# Altium footprint library consubd.PcbLib: 91 footprints (part 4 of 6)
Each footprint in its own frame and in the unit in brackets; x right, y up, seen from the top. Pads: shape width x height; smd on the part's side, far side on the other; paste and mask are expansions set on the pad; w line width, h text height; cw(c..) or ccw(c..) is an arc to the next point about the centre after c.
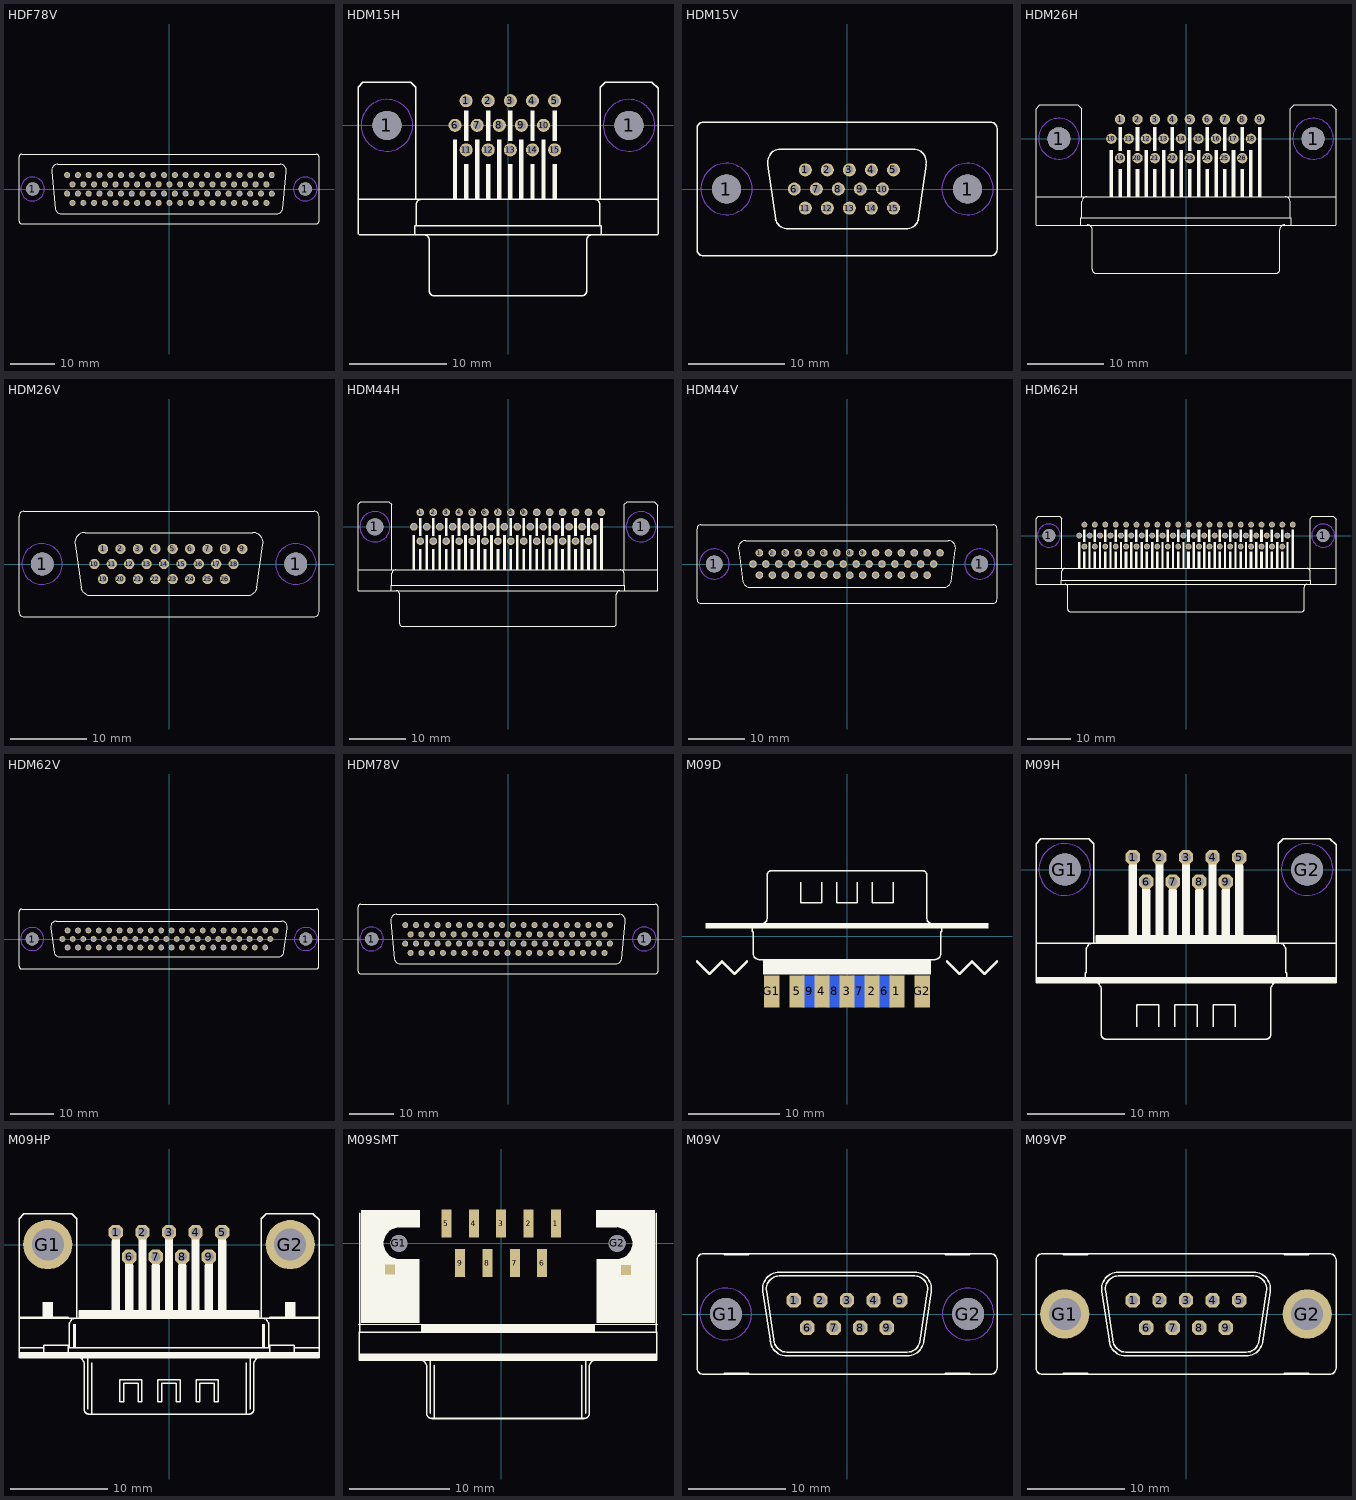
[diagram p3: the footprints below, top view; thin cyan lines are the x and y axes]

## HDF78V [mm]
pads (80):
  round 3 hole 3: 1(-30.55,0) 1(30.55,0)
  oct 1.307x1.307 hole 0.9: 1(23.024,3.12)
  round 1.35 hole 0.9: 2(20.611,3.12) 3(18.198,3.12) 4(15.785,3.12) 5(13.372,3.12) 6(10.959,3.12) 7(8.546,3.12) 8(6.133,3.12) 9(3.72,3.12) 10(1.307,3.12) 11(-1.106,3.12) 12(-3.519,3.12) 13(-5.932,3.12) 14(-8.345,3.12) 15(-10.758,3.12) 16(-13.171,3.12) 17(-15.584,3.12) 18(-17.997,3.12) 19(-20.41,3.12) 20(-22.823,3.12) 21(21.817,1.04) 22(19.404,1.04) 23(16.991,1.04) 24(14.578,1.04) 25(12.165,1.04) 26(9.752,1.04) 27(7.339,1.04) 28(4.926,1.04) 29(2.513,1.04) 30(0.1,1.04) 31(-2.313,1.04) 32(-4.726,1.04) 33(-7.139,1.04) 34(-9.552,1.04) 35(-11.965,1.04) 36(-14.378,1.04) 37(-16.791,1.04) 38(-19.204,1.04) 39(-21.617,1.04) 40(23.024,-1.04) 41(20.611,-1.04) 42(18.198,-1.04) 43(15.785,-1.04) 44(13.372,-1.04) 45(10.959,-1.04) 46(8.546,-1.04) 47(6.133,-1.04) 48(3.72,-1.04) 49(1.307,-1.04) 50(-1.106,-1.04) 51(-3.519,-1.04) 52(-5.932,-1.04) 53(-8.345,-1.04) 54(-10.758,-1.04) 55(-13.171,-1.04) 56(-15.584,-1.04) 57(-17.997,-1.04) 58(-20.41,-1.04) 59(-22.823,-1.04) 60(21.817,-3.12) 61(19.404,-3.12) 62(16.991,-3.12) 63(14.578,-3.12) 64(12.165,-3.12) 65(9.752,-3.12) 66(7.339,-3.12) 67(4.926,-3.12) 68(2.513,-3.12) 69(0.1,-3.12) 70(-2.313,-3.12) 71(-4.726,-3.12) 72(-7.139,-3.12) 73(-9.552,-3.12) 74(-11.965,-3.12) 75(-14.378,-3.12) 76(-16.791,-3.12) 77(-19.204,-3.12) 78(-21.617,-3.12)
Top Layer keep-out:
  circle w0: c30.55,0 r2.667
  circle w0: c-30.55,0 r2.667
Bottom Layer keep-out:
  circle w0: c30.55,0 r2.667
  circle w0: c-30.55,0 r2.667
Top Overlay:
  lines w0.152: -32.971,-7.823 cw(c-32.971,-7.188) -33.606,-7.188 -33.606,7.188 cw(c-32.971,7.188) -32.971,7.823 32.963,7.823 ; -32.963,-7.823 32.971,-7.823 ccw(c32.971,-7.188) 33.606,-7.188 33.606,7.188 ccw(c32.971,7.188) 32.971,7.823 ; -26.247,3.937 -25.459,-4.546 ; -26.246,3.927 cw(c-24.926,4.191) -24.926,5.537 24.926,5.537 cw(c24.926,4.191) 26.242,3.904 ; -25.467,-4.53 ccw(c-24.164,-4.191) -24.164,-5.537 24.164,-5.537 ccw(c24.164,-4.191) 25.467,-4.53 ; 25.459,-4.521 26.247,3.911

## HDM15H [mm]
pads (17):
  round 3 hole 3: 1(-12.5,0) 1(12.5,0)
  round 1.35 hole 0.9: 1(-4.329,2.54) 2(-2.043,2.54) 3(0.243,2.54) 4(2.529,2.54) 5(4.815,2.54) 6(-5.472,0) 7(-3.186,0) 8(-0.9,0) 9(1.386,0) 10(3.672,0) 11(-4.329,-2.54) 12(-2.043,-2.54) 13(0.243,-2.54) 14(2.529,-2.54) 15(4.815,-2.54)
Top Layer keep-out:
  circle w0: c-12.5,0 r2.667
  circle w0: c12.5,0 r2.667
Bottom Layer keep-out:
  circle w0: c-12.5,0 r2.667
  circle w0: c12.5,0 r2.667
Top Overlay:
  region: -4.529,-1.6 -4.529,1.5 -4.129,1.5 -4.129,-1.6
  region: -2.243,-1.6 -2.243,1.5 -1.843,1.5 -1.843,-1.6
  region: 0.043,-1.6 0.043,1.5 0.443,1.5 0.443,-1.6
  region: 2.329,-1.6 2.329,1.5 2.729,1.5 2.729,-1.6
  region: 4.615,-1.6 4.615,1.5 5.015,1.5 5.015,-1.6
  region: -4.529,-7.6 -4.529,-4 -4.129,-4 -4.129,-7.6
  region: -2.243,-7.6 -2.243,-4 -1.843,-4 -1.843,-7.6
  region: 4.615,-7.6 4.615,-4 5.015,-4 5.015,-7.6
  region: 2.329,-7.6 2.329,-4 2.729,-4 2.729,-7.6
  region: 0.043,-7.6 0.043,-4 0.443,-4 0.443,-7.6
  region: -5.672,-7.6 -5.672,-1.5 -5.272,-1.5 -5.272,-7.6
  region: -3.386,-7.6 -3.386,-1.5 -2.986,-1.5 -2.986,-7.6
  region: 3.472,-7.6 3.472,-1.5 3.872,-1.5 3.872,-7.6
  region: 1.186,-7.6 1.186,-1.5 1.586,-1.5 1.586,-7.6
  region: -1.1,-7.6 -1.1,-1.5 -0.7,-1.5 -0.7,-7.6
  lines w0.152: -15.494,-11.276 -15.494,-7.62 ; -15.38,-11.294 15.476,-11.294 ; -9.614,-11.276 -9.614,-10.368 -9.487,-10.368 ; -9.525,-7.62 -9.525,3.937 -10.033,4.445 -14.986,4.445 -15.494,3.937 -15.494,-7.62 ; -8.852,-7.62 ccw(c-8.852,-8.255) -9.487,-8.255 -9.487,-10.368 ; -8.763,-11.284 cw(c-8.763,-11.919) -8.128,-11.919 -8.128,-17.099 ccw(c-7.62,-17.099) -7.62,-17.607 7.62,-17.607 ccw(c7.62,-17.099) 8.128,-17.099 8.128,-11.919 cw(c8.763,-11.919) 8.763,-11.284 ; 8.852,-7.62 cw(c8.852,-8.255) 9.487,-8.255 9.487,-10.368 ; 9.525,-7.62 9.525,3.937 10.033,4.445 14.859,4.445 15.494,3.81 15.494,-11.276 ; 9.614,-11.276 9.614,-10.368 9.487,-10.368 ; 15.475,-7.62 -15.494,-7.62 ; -9.487,-10.368 9.487,-10.368

## HDM15V [mm]
pads (17):
  round 3 hole 3: 1(-12.5,0) 1(12.5,0)
  round 1.35 hole 0.9: 1(-4.324,1.98) 2(-2.038,1.98) 3(0.248,1.98) 4(2.534,1.98) 5(4.82,1.98) 6(-5.467,0) 7(-3.181,0) 8(-0.895,0) 9(1.391,0) 10(3.677,0) 11(-4.324,-1.98) 12(-2.038,-1.98) 13(0.248,-1.98) 14(2.534,-1.98) 15(4.82,-1.98)
Top Layer keep-out:
  circle w0: c12.5,0 r2.667
  circle w0: c-12.5,0 r2.667
Bottom Layer keep-out:
  circle w0: c12.5,0 r2.667
  circle w0: c-12.5,0 r2.667
Top Overlay:
  lines w0.152: -14.921,-6.923 cw(c-14.921,-6.288) -15.556,-6.288 -15.556,6.288 cw(c-14.921,6.288) -14.921,6.923 14.913,6.923 ; -14.913,-6.923 14.921,-6.923 ccw(c14.921,-6.288) 15.556,-6.288 15.556,6.288 ccw(c14.921,6.288) 14.921,6.923 ; -8.196,2.527 cw(c-6.876,2.791) -6.876,4.137 6.876,4.137 cw(c6.876,2.791) 8.191,2.504 ; -8.197,2.537 -7.409,-3.146 ; -7.417,-3.13 ccw(c-6.114,-2.791) -6.114,-4.137 6.114,-4.137 ccw(c6.114,-2.791) 7.417,-3.13 ; 7.409,-3.121 8.197,2.511

## HDM26H [mm]
pads (28):
  round 3 hole 3: 1(-16.65,0) 1(16.65,0)
  round 1.35 hole 0.9: 1(-8.639,2.54) 2(-6.353,2.54) 3(-4.067,2.54) 4(-1.781,2.54) 5(0.505,2.54) 6(2.791,2.54) 7(5.077,2.54) 8(7.363,2.54) 9(9.649,2.54) 10(-9.782,0) 11(-7.496,0) 12(-5.21,0) 13(-2.924,0) 14(-0.638,0) 15(1.648,0) 16(3.934,0) 17(6.22,0) 18(8.506,0) 19(-8.639,-2.54) 20(-6.353,-2.54) 21(-4.067,-2.54) 22(-1.781,-2.54) 23(0.505,-2.54) 24(2.791,-2.54) 25(5.077,-2.54) 26(7.363,-2.54)
Top Layer keep-out:
  circle w0: c16.65,0 r2.667
  circle w0: c-16.65,0 r2.667
Bottom Layer keep-out:
  circle w0: c16.65,0 r2.667
  circle w0: c-16.65,0 r2.667
Top Overlay:
  region: -5.41,-7.6 -5.41,-1.5 -5.01,-1.5 -5.01,-7.6
  region: -3.124,-7.6 -3.124,-1.5 -2.724,-1.5 -2.724,-7.6
  region: -0.838,-7.6 -0.838,-1.5 -0.438,-1.5 -0.438,-7.6
  region: -7.696,-7.6 -7.696,-1.5 -7.296,-1.5 -7.296,-7.6
  region: -9.982,-7.6 -9.982,-1.5 -9.582,-1.5 -9.582,-7.6
  region: -4.267,-7.6 -4.267,-4 -3.867,-4 -3.867,-7.6
  region: -1.981,-7.6 -1.981,-4 -1.581,-4 -1.581,-7.6
  region: 0.305,-7.6 0.305,-4 0.705,-4 0.705,-7.6
  region: -6.553,-7.6 -6.553,-4 -6.153,-4 -6.153,-7.6
  region: -8.839,-7.6 -8.839,-4 -8.439,-4 -8.439,-7.6
  region: 0.305,-1.6 0.305,1.5 0.705,1.5 0.705,-1.6
  region: -1.981,-1.6 -1.981,1.5 -1.581,1.5 -1.581,-1.6
  region: -4.267,-1.6 -4.267,1.5 -3.867,1.5 -3.867,-1.6
  region: -6.553,-1.6 -6.553,1.5 -6.153,1.5 -6.153,-1.6
  region: -8.839,-1.6 -8.839,1.5 -8.439,1.5 -8.439,-1.6
  region: 6.02,-7.6 6.02,-1.5 6.42,-1.5 6.42,-7.6
  region: 8.306,-7.6 8.306,-1.5 8.706,-1.5 8.706,-7.6
  region: 3.734,-7.6 3.734,-1.5 4.134,-1.5 4.134,-7.6
  region: 7.163,-7.6 7.163,-4 7.563,-4 7.563,-7.6
  region: 4.877,-7.6 4.877,-4 5.277,-4 5.277,-7.6
  region: 2.591,-7.6 2.591,-4 2.991,-4 2.991,-7.6
  region: 1.448,-7.6 1.448,-1.5 1.848,-1.5 1.848,-7.6
  region: 2.591,-1.6 2.591,1.5 2.991,1.5 2.991,-1.6
  region: 4.877,-1.6 4.877,1.5 5.277,1.5 5.277,-1.6
  region: 7.163,-1.6 7.163,1.5 7.563,1.5 7.563,-1.6
  region: 9.449,-1.6 9.449,1.5 9.849,1.5 9.849,-1.6
  region: 9.449,-7.6 9.449,-1.5 9.849,-1.5 9.849,-7.6
  lines w0.152: -19.644,-11.276 -19.644,-7.62 ; -19.6,-11.3 19.6,-11.3 ; -13.764,-11.276 -13.764,-10.368 -13.637,-10.368 ; -13.675,-7.62 -13.675,3.937 -14.183,4.445 -19.136,4.445 -19.644,3.937 -19.644,-7.62 ; -13.002,-7.62 ccw(c-13.002,-8.255) -13.637,-8.255 -13.637,-10.368 ; -12.913,-11.284 cw(c-12.913,-11.919) -12.278,-11.919 -12.278,-17.099 ccw(c-11.77,-17.099) -11.77,-17.607 11.77,-17.607 ccw(c11.77,-17.099) 12.278,-17.099 12.278,-11.919 cw(c12.913,-11.919) 12.913,-11.284 ; 13.002,-7.62 cw(c13.002,-8.255) 13.637,-8.255 13.637,-10.368 ; 13.675,-7.62 13.675,3.937 14.183,4.445 19.009,4.445 19.644,3.81 19.644,-11.276 ; 13.764,-11.276 13.764,-10.368 13.637,-10.368 ; 19.556,-7.62 -19.644,-7.62 ; -13.637,-10.368 13.637,-10.368

## HDM26V [mm]
pads (28):
  round 3 hole 3: 1(-16.65,0) 1(16.65,0)
  round 1.35 hole 0.9: 1(-8.658,1.98) 2(-6.372,1.98) 3(-4.086,1.98) 4(-1.8,1.98) 5(0.486,1.98) 6(2.772,1.98) 7(5.058,1.98) 8(7.344,1.98) 9(9.63,1.98) 10(-9.801,0) 11(-7.515,0) 12(-5.229,0) 13(-2.943,0) 14(-0.657,0) 15(1.629,0) 16(3.915,0) 17(6.201,0) 18(8.487,0) 19(-8.658,-1.98) 20(-6.372,-1.98) 21(-4.086,-1.98) 22(-1.8,-1.98) 23(0.486,-1.98) 24(2.772,-1.98) 25(5.058,-1.98) 26(7.344,-1.98)
Top Layer keep-out:
  circle w0: c16.672,0 r2.667
  circle w0: c-16.672,0 r2.667
Bottom Layer keep-out:
  circle w0: c16.672,0 r2.667
  circle w0: c-16.672,0 r2.667
Top Overlay:
  lines w0.152: -19.071,-6.923 cw(c-19.071,-6.288) -19.706,-6.288 -19.706,6.288 cw(c-19.071,6.288) -19.071,6.923 19.063,6.923 ; -19.063,-6.923 19.071,-6.923 ccw(c19.071,-6.288) 19.706,-6.288 19.706,6.288 ccw(c19.071,6.288) 19.071,6.923 ; -12.347,2.537 -11.559,-3.146 ; -12.346,2.527 cw(c-11.026,2.791) -11.026,4.137 11.026,4.137 cw(c11.026,2.79) 12.342,2.504 ; -11.567,-3.13 ccw(c-10.264,-2.791) -10.264,-4.137 10.264,-4.137 ccw(c10.264,-2.791) 11.567,-3.13 ; 11.559,-3.121 12.347,2.511

## HDM44H [mm]
pads (46):
  round 3 hole 3: 1(-23.52,0) 1(23.52,0)
  round 1.35 hole 0.9: 1(-15.497,2.54) 2(-13.211,2.54) 3(-10.925,2.54) 4(-8.639,2.54) 5(-6.353,2.54) 6(-4.067,2.54) 7(-1.781,2.54) 8(0.505,2.54) 9(2.791,2.54) 10(5.077,2.54) 11(7.363,2.54) 12(9.649,2.54) 13(11.935,2.54) 14(14.221,2.54) 15(16.507,2.54) 16(-16.64,0) 17(-14.354,0) 18(-12.068,0) 19(-9.782,0) 20(-7.496,0) 21(-5.21,0) 22(-2.924,0) 23(-0.638,0) 24(1.648,0) 25(3.934,0) 26(6.22,0) 27(8.506,0) 28(10.792,0) 29(13.078,0) 30(15.364,0) 31(-15.497,-2.54) 32(-13.211,-2.54) 33(-10.925,-2.54) 34(-8.639,-2.54) 35(-6.353,-2.54) 36(-4.067,-2.54) 37(-1.781,-2.54) 38(0.505,-2.54) 39(2.791,-2.54) 40(5.077,-2.54) 41(7.363,-2.54) 42(9.649,-2.54) 43(11.935,-2.54) 44(14.221,-2.54)
Top Layer keep-out:
  circle w0: c-23.52,0 r2.667
  circle w0: c23.52,0 r2.667
Bottom Layer keep-out:
  circle w0: c-23.52,0 r2.667
  circle w0: c23.52,0 r2.667
Top Overlay:
  drawing of 74 lines, arcs and shapes, not listed

## HDM44V [mm]
pads (46):
  round 3 hole 3: 1(-23.52,0) 1(23.52,0)
  round 1.35 hole 0.9: 1(-15.516,1.98) 2(-13.23,1.98) 3(-10.944,1.98) 4(-8.658,1.98) 5(-6.372,1.98) 6(-4.086,1.98) 7(-1.8,1.98) 8(0.486,1.98) 9(2.772,1.98) 10(5.058,1.98) 11(7.344,1.98) 12(9.63,1.98) 13(11.916,1.98) 14(14.202,1.98) 15(16.488,1.98) 16(-16.659,0) 17(-14.373,0) 18(-12.087,0) 19(-9.801,0) 20(-7.515,0) 21(-5.229,0) 22(-2.943,0) 23(-0.657,0) 24(1.629,0) 25(3.915,0) 26(6.201,0) 27(8.487,0) 28(10.773,0) 29(13.059,0) 30(15.345,0) 31(-15.516,-1.98) 32(-13.23,-1.98) 33(-10.944,-1.98) 34(-8.658,-1.98) 35(-6.372,-1.98) 36(-4.086,-1.98) 37(-1.8,-1.98) 38(0.486,-1.98) 39(2.772,-1.98) 40(5.058,-1.98) 41(7.344,-1.98) 42(9.63,-1.98) 43(11.916,-1.98) 44(14.202,-1.98)
Top Layer keep-out:
  circle w0: c23.52,0 r2.667
  circle w0: c-23.52,0 r2.667
Bottom Layer keep-out:
  circle w0: c23.52,0 r2.667
  circle w0: c-23.52,0 r2.667
Top Overlay:
  lines w0.152: -25.941,-6.923 cw(c-25.941,-6.288) -26.576,-6.288 -26.576,6.288 cw(c-25.941,6.288) -25.941,6.923 25.933,6.923 ; -25.933,-6.923 25.941,-6.923 ccw(c25.941,-6.288) 26.576,-6.288 26.576,6.288 ccw(c25.941,6.288) 25.941,6.923 ; -19.216,2.527 cw(c-17.896,2.791) -17.896,4.137 17.896,4.137 cw(c17.896,2.791) 19.212,2.504 ; -19.217,2.537 -18.429,-3.146 ; -18.437,-3.13 ccw(c-17.134,-2.791) -17.134,-4.137 17.134,-4.137 ccw(c17.134,-2.791) 18.437,-3.13 ; 18.429,-3.121 19.217,2.511

## HDM62H [mm]
pads (64):
  round 3 hole 3: 1(-31.75,0) 1(31.75,0)
  round 1.35 hole 0.9: 1(-23.527,2.54) 2(-21.114,2.54) 3(-18.701,2.54) 4(-16.288,2.54) 5(-13.875,2.54) 6(-11.462,2.54) 7(-9.049,2.54) 8(-6.636,2.54) 9(-4.223,2.54) 10(-1.81,2.54) 11(0.603,2.54) 12(3.016,2.54) 13(5.429,2.54) 14(7.842,2.54) 15(10.255,2.54) 16(12.668,2.54) 17(15.081,2.54) 18(17.494,2.54) 19(19.907,2.54) 20(22.32,2.54) 21(24.733,2.54) 22(-24.734,0) 23(-22.321,0) 24(-19.908,0) 25(-17.495,0) 26(-15.082,0) 27(-12.669,0) 28(-10.256,0) 29(-7.843,0) 30(-5.43,0) 31(-3.017,0) 32(-0.604,0) 33(1.809,0) 34(4.222,0) 35(6.635,0) 36(9.048,0) 37(11.461,0) 38(13.874,0) 39(16.287,0) 40(18.7,0) 41(21.113,0) 42(23.526,0) 43(-23.527,-2.54) 44(-21.114,-2.54) 45(-18.701,-2.54) 46(-16.288,-2.54) 47(-13.875,-2.54) 48(-11.462,-2.54) 49(-9.049,-2.54) 50(-6.636,-2.54) 51(-4.223,-2.54) 52(-1.81,-2.54) 53(0.603,-2.54) 54(3.016,-2.54) 55(5.429,-2.54) 56(7.842,-2.54) 57(10.255,-2.54) 58(12.668,-2.54) 59(15.081,-2.54) 60(17.494,-2.54) 61(19.907,-2.54) 62(22.32,-2.54)
Top Layer keep-out:
  circle w0: c31.75,0 r2.667
  circle w0: c-31.75,0 r2.667
Bottom Layer keep-out:
  circle w0: c31.75,0 r2.667
  circle w0: c-31.75,0 r2.667
Top Overlay:
  drawing of 91 lines, arcs and shapes, not listed

## HDM62V [mm]
pads (64):
  round 3 hole 3: 1(-31.75,0) 1(31.75,0)
  round 1.35 hole 0.9: 1(-23.532,1.98) 2(-21.119,1.98) 3(-18.706,1.98) 4(-16.293,1.98) 5(-13.88,1.98) 6(-11.467,1.98) 7(-9.054,1.98) 8(-6.641,1.98) 9(-4.228,1.98) 10(-1.815,1.98) 11(0.598,1.98) 12(3.011,1.98) 13(5.424,1.98) 14(7.837,1.98) 15(10.25,1.98) 16(12.663,1.98) 17(15.076,1.98) 18(17.489,1.98) 19(19.902,1.98) 20(22.315,1.98) 21(24.728,1.98) 22(-24.739,0) 23(-22.325,0) 24(-19.912,0) 25(-17.499,0) 26(-15.086,0) 27(-12.673,0) 28(-10.26,0) 29(-7.847,0) 30(-5.434,0) 31(-3.021,0) 32(-0.608,0) 33(1.805,0) 34(4.218,0) 35(6.631,0) 36(9.044,0) 37(11.457,0) 38(13.87,0) 39(16.283,0) 40(18.696,0) 41(21.109,0) 42(23.522,0) 43(-23.532,-1.98) 44(-21.119,-1.98) 45(-18.706,-1.98) 46(-16.293,-1.98) 47(-13.88,-1.98) 48(-11.467,-1.98) 49(-9.054,-1.98) 50(-6.641,-1.98) 51(-4.228,-1.98) 52(-1.815,-1.98) 53(0.598,-1.98) 54(3.011,-1.98) 55(5.424,-1.98) 56(7.837,-1.98) 57(10.25,-1.98) 58(12.663,-1.98) 59(15.076,-1.98) 60(17.489,-1.98) 61(19.902,-1.98) 62(22.315,-1.98)
Top Layer keep-out:
  circle w0: c31.75,0 r2.667
  circle w0: c-31.75,0 r2.667
Bottom Layer keep-out:
  circle w0: c31.75,0 r2.667
  circle w0: c-31.75,0 r2.667
Top Overlay:
  lines w0.152: -34.171,-6.923 cw(c-34.171,-6.288) -34.806,-6.288 -34.806,6.288 cw(c-34.171,6.288) -34.171,6.923 34.163,6.923 ; -34.163,-6.923 34.171,-6.923 ccw(c34.171,-6.288) 34.806,-6.288 34.806,6.288 ccw(c34.171,6.288) 34.171,6.923 ; -27.447,2.537 -26.659,-3.146 ; -27.446,2.527 cw(c-26.126,2.791) -26.126,4.137 26.126,4.137 cw(c26.126,2.791) 27.441,2.504 ; -26.667,-3.13 ccw(c-25.364,-2.791) -25.364,-4.137 25.364,-4.137 ccw(c25.364,-2.791) 26.667,-3.13 ; 26.659,-3.121 27.447,2.511

## HDM78V [mm]
pads (80):
  round 3 hole 3: 1(-30.55,0) 1(30.55,0)
  round 1.35 hole 0.9: 1(-23.024,3.12) 2(-20.611,3.12) 3(-18.198,3.12) 4(-15.785,3.12) 5(-13.372,3.12) 6(-10.959,3.12) 7(-8.546,3.12) 8(-6.133,3.12) 9(-3.72,3.12) 10(-1.307,3.12) 11(1.106,3.12) 12(3.519,3.12) 13(5.932,3.12) 14(8.345,3.12) 15(10.758,3.12) 16(13.171,3.12) 17(15.584,3.12) 18(17.997,3.12) 19(20.41,3.12) 20(22.823,3.12) 21(-21.817,1.04) 22(-19.404,1.04) 23(-16.991,1.04) 24(-14.578,1.04) 25(-12.165,1.04) 26(-9.752,1.04) 27(-7.339,1.04) 28(-4.926,1.04) 29(-2.513,1.04) 30(-0.1,1.04) 31(2.313,1.04) 32(4.726,1.04) 33(7.139,1.04) 34(9.552,1.04) 35(11.965,1.04) 36(14.378,1.04) 37(16.791,1.04) 38(19.204,1.04) 39(21.617,1.04) 40(-23.024,-1.04) 41(-20.611,-1.04) 42(-18.198,-1.04) 43(-15.785,-1.04) 44(-13.372,-1.04) 45(-10.959,-1.04) 46(-8.546,-1.04) 47(-6.133,-1.04) 48(-3.72,-1.04) 49(-1.307,-1.04) 50(1.106,-1.04) 51(3.519,-1.04) 52(5.932,-1.04) 53(8.345,-1.04) 54(10.758,-1.04) 55(13.171,-1.04) 56(15.584,-1.04) 57(17.997,-1.04) 58(20.41,-1.04) 59(22.823,-1.04) 60(-21.817,-3.12) 61(-19.404,-3.12) 62(-16.991,-3.12) 63(-14.578,-3.12) 64(-12.165,-3.12) 65(-9.752,-3.12) 66(-7.339,-3.12) 67(-4.926,-3.12) 68(-2.513,-3.12) 69(-0.1,-3.12) 70(2.313,-3.12) 71(4.726,-3.12) 72(7.139,-3.12) 73(9.552,-3.12) 74(11.965,-3.12) 75(14.378,-3.12) 76(16.791,-3.12) 77(19.204,-3.12) 78(21.617,-3.12)
Top Layer keep-out:
  circle w0: c-30.55,0 r2.667
  circle w0: c30.55,0 r2.667
Bottom Layer keep-out:
  circle w0: c-30.55,0 r2.667
  circle w0: c30.55,0 r2.667
Top Overlay:
  lines w0.152: -32.971,-7.823 cw(c-32.971,-7.188) -33.606,-7.188 -33.606,7.188 cw(c-32.971,7.188) -32.971,7.823 32.963,7.823 ; -32.963,-7.823 32.971,-7.823 ccw(c32.971,-7.188) 33.606,-7.188 33.606,7.188 ccw(c32.971,7.188) 32.971,7.823 ; -26.247,3.937 -25.459,-4.546 ; -26.246,3.927 cw(c-24.926,4.191) -24.926,5.537 24.926,5.537 cw(c24.926,4.191) 26.242,3.904 ; -25.467,-4.53 ccw(c-24.164,-4.191) -24.164,-5.537 24.164,-5.537 ccw(c24.164,-4.191) 25.467,-4.53 ; 25.459,-4.521 26.247,3.911

## M09D [mil]
pads (11):
  rect 66.93x137.8 smd: 1(215.99,-237.98) 2(108.01,-237.98) 3(0,-237.99) 4(-108.01,-237.98) 5(-215.99,-237.98) G1(-325.99,-237.98) G2(325.99,-237.98)
  rect 66.93x137.8 smd far side: 6(162,-238) 7(54,-238) 8(-54,-238) 9(-162,-238)
Top Overlay:
  region: -610,36.06 -610,56.06 610,56.06 610,36.06
  region: -362.2,-163.78 -362.2,-100.79 362.2,-100.79 362.2,-163.78
  lines w6: -410,40 -410,20 -405,20 -405,-75 ccw(c-380,-75) -380,-100 ; -380.75,-100 380.75,-100 ; -370,54.45 ccw(c-370,79.45) -345,79.45 -345,264.45 cw(c-325,264.45) -325,284.45 325,284.45 cw(c325,264.45) 345,264.45 345,79.45 ccw(c370,79.45) 370,54.45 ; -200,234.45 -200,144.45 -110,144.45 -110,234.45 ; -45,234.45 -45,144.45 45,144.45 45,234.45 ; 110,234.45 110,144.45 200,144.45 200,234.45 ; 380,-100 ccw(c380,-75) 405,-75 405,20 410,20 410,40
  lines w10: -648,-108 -594,-162 -540,-108 -486,-162 -432,-108 ; 432,-108 486,-162 540,-108 594,-162 648,-108

## M09H [mil]
pads (11):
  oct 58.09x58.09 hole 40: 1(-216,50) 2(-108,50) 3(0,50) 4(108,50) 5(216,50) 6(-162,-50) 7(-54,-50) 8(54,-50) 9(162,-50)
  round 130 hole 130: G1(-493,0) G2(493,0)
Top Layer keep-out:
  circle w0: c-493,0 r105
  circle w0: c493,0 r105
Bottom Layer keep-out:
  circle w0: c-493,0 r105
  circle w0: c493,0 r105
Top Overlay:
  region: 200,-270 200,15 232,15 232,-270
  region: 146,-270 146,-85 178,-85 178,-270
  region: 92,-270 92,15 124,15 124,-270
  region: 38,-270 38,-85 70,-85 70,-270
  region: -16,-270 -16,15 16,15 16,-270
  region: -70,-270 -70,-85 -38,-85 -38,-270
  region: -124,-270 -124,15 -92,15 -92,-270
  region: -178,-270 -178,-85 -146,-85 -146,-270
  region: -232,-270 -232,15 -200,15 -200,-270
  region: -610,-460 -610,-440 610,-440 610,-460
  region: -365,-300 -365,-270 365,-270 365,-300
  lines w6: -380,-300 ccw(c-380,-325) -405,-325 -405,-420 -410,-420 -410,-440 ; -370,-460 cw(c-370,-485) -345,-485 -345,-670 ccw(c-325,-670) -325,-690 -315,-690 315,-690 325,-690 ccw(c325,-670) 345,-670 345,-485 cw(c370,-485) 370,-460 ; -200,-640 -200,-550 -110,-550 -110,-640 ; -45,-640 -45,-550 45,-550 45,-640 ; 110,-640 110,-550 200,-550 200,-640 ; 380,-300 cw(c380,-325) 405,-325 405,-420 410,-420 410,-440 ; -610,-440 -510,-440 -410,-440 ; -610,-440 -610,-420 -610,-300 ; -610,-440 -610,-460 -330,-460 330,-460 610,-460 610,-440 ; -610,-300 -410,-300 -375,-300 ; -610,-300 -610,-295 -610,105 -590,125 -395,125 -375,105 -375,-300 ; -410,-440 410,-440 ; -375,-300 -365,-300 ; -365,-300 -365,-270 365,-270 365,-300 ; -365,-300 365,-300 ; 365,-300 375,-300 ; 375,-300 375,105 395,125 585,125 610,100 610,-295 610,-300 ; 375,-300 410,-300 610,-300 ; 410,-440 510,-440 610,-440 ; 610,-440 610,-420 610,-300
  lines w32: -216,5 -216,45 ; -162,-95 -162,-55 ; -108,5 -108,45 ; -54,-95 -54,-55 ; 0,5 0,45 ; 54,-95 54,-55 ; 108,5 108,45 ; 162,-95 162,-55 ; 216,5 216,45

## M09HP [mil]
pads (11):
  oct 58.09x58.09 hole 40: 1(-216,50) 2(-108,50) 3(0,50) 4(108,50) 5(216,50) 6(-162,-50) 7(-54,-50) 8(54,-50) 9(162,-50)
  round 200 hole 130: G1(-493,0) G2(493,0)
Top Overlay:
  drawing of 120 lines, arcs and shapes, not listed
3D body "sld09p13a4gx00lf.stp": height 530.03, standoff -125.48, extent -608.07,-691.97 608.46,121.02

## M09SMT [mm]
pads (13):
  rect 1x2.8 smd: 1(5.48,1.975) 2(2.74,1.975) 3(0,1.975) 4(-2.74,1.975) 5(-5.48,1.975) 6(4.11,-1.975) 7(1.37,-1.975) 8(-1.37,-1.975) 9(-4.11,-1.975)
  round 1.7 hole 1.7: G1(-10.24,0) G2(11.61,0)
  rect 1x1 smd: S@1(12.485,-2.65) S@2(-11.115,-2.625)
Top Overlay:
  region: 15.368,-7.938 9.56,-7.938 9.56,-1.587 11.558,-1.587 11.713,-1.58 12.018,-1.519 12.306,-1.4 12.565,-1.227 12.785,-1.007 12.958,-0.748 13.077,-0.461 13.137,-0.156 13.137,0.156 13.077,0.461 12.958,0.748 12.785,1.007 12.565,1.227 12.306,1.4 12.018,1.519 11.713,1.58 11.558,1.587 9.535,1.587 9.535,3.325 15.368,3.325
  region: -13.997,-7.938 -8.19,-7.938 -8.19,-1.587 -10.187,-1.587 -10.343,-1.58 -10.648,-1.519 -10.936,-1.4 -11.195,-1.227 -11.415,-1.007 -11.587,-0.748 -11.707,-0.461 -11.767,-0.156 -11.767,0.156 -11.707,0.461 -11.587,0.748 -11.415,1.007 -11.195,1.227 -10.936,1.4 -10.648,1.519 -10.343,1.58 -10.187,1.587 -8.165,1.587 -8.165,3.325 -13.997,3.325
  region: -14.175,-11.684 -14.175,-11.04 15.575,-11.04 15.575,-11.684
  region: -7.938,-8.92 -7.938,-8.158 9.325,-8.158 9.325,-8.92
  lines w0: -14.317,-8.1 15.688,-8.1
  lines w0.152: -14.14,3.016 -14.14,-8.793 -14.188,-8.92 ; -8.092,-11.684 cw(c-8.092,-12.319) -7.457,-12.319 -7.457,-17.018 ccw(c-6.949,-17.018) -6.949,-17.526 -6.695,-17.526 ; -7.076,-17.018 -7.076,-11.684 ; -6.695,-12.192 -6.695,-17.526 ; 8.065,-12.192 8.065,-17.526 ; 8.446,-17.018 8.446,-11.684 ; 9.462,-11.684 ccw(c9.462,-12.319) 8.827,-12.319 8.827,-17.018 cw(c8.319,-17.018) 8.319,-17.526 8.065,-17.526 ; 15.51,3.016 15.51,-8.793 15.558,-8.92 ; -14.188,-8.92 -7.965,-8.92 ; -14.188,-8.92 -14.188,-11.684 -7.076,-11.684 ; -7.965,-8.92 -7.965,-8.158 9.335,-8.158 9.335,-8.92 ; -7.965,-8.92 9.335,-8.92 ; -7.076,-11.684 8.446,-11.684 ; -6.695,-17.526 8.065,-17.526 ; 8.446,-11.684 15.558,-11.684 15.558,-8.92 ; 9.335,-8.92 15.558,-8.92

## M09V [mil]
pads (11):
  oct 58.09x58.09 hole 40: 1(-216,56) 2(-108,56) 3(0,56) 4(108,56) 5(216,56) 6(-162,-56) 7(-54,-56) 8(54,-56) 9(162,-56)
  round 130 hole 130: G1(-493,0) G2(493,0)
Top Layer keep-out:
  circle w0: c-493,0 r105
  circle w0: c493,0 r105
Bottom Layer keep-out:
  circle w0: c-493,0 r105
  circle w0: c493,0 r105
Top Overlay:
  lines w6: -342,92 -311,-116 ; -341.68,88.67 cw(c-275,102) -275,170 275,170 cw(c275,101.99) 341.69,88.67 ; -327,92 -296,-116 ; -326.97,91.61 cw(c-275,102) -275,155 275,155 cw(c275,101.99) 326.79,90.7 ; -312.4,-110.99 ccw(c-245,-102) -245,-170 245,-170 ccw(c244.99,-102) 312.89,-105.7 ; -296.3,-115.33 ccw(c-245,-101.99) -245,-155 245,-155 ccw(c244.99,-102) 296.52,-114.37 ; 296,-115 327,91 ; 312,-113 342,91 ; -500,-245 -500,-240 -400,-240 -400,-245 ; -500,-245 -400,-245 ; -500,-245 -585,-245 cw(c-585,-220) -610,-220 -610,220 cw(c-585,220) -585,245 -500,245 ; -500,245 -500,240 -400,240 -400,245 ; -500,245 -400,245 ; -400,-245 400,-245 ; -400,245 400,245 ; 400,-245 400,-240 500,-240 500,-245 ; 400,-245 500,-245 ; 400,245 400,240 500,240 500,245 ; 400,245 500,245 ; 500,-245 585,-245 ccw(c585,-220) 610,-220 610,220 ccw(c585,220) 585,245 500,245
Mechanical 8:
  circle w16: c0,56 r10
  circle w16: c54,-56 r10
  circle w16: c108,56 r10
  circle w16: c162,-56 r10
  circle w16: c216,56 r10
  circle w16: c-54,-56 r10
  circle w16: c-108,56 r10
  circle w16: c-162,-56 r10
  circle w16: c-216,56 r10

## M09VP [mil]
pads (11):
  oct 58.09x58.09 hole 40: 1(-216,56) 2(-108,56) 3(0,56) 4(108,56) 5(216,56) 6(-162,-56) 7(-54,-56) 8(54,-56) 9(162,-56)
  round 200 hole 130: G1(-493,0) G2(493,0)
Top Overlay:
  lines w6: -342,92 -311,-116 ; -341.68,88.67 cw(c-275,102) -275,170 275,170 cw(c275,101.99) 341.69,88.67 ; -327,92 -296,-116 ; -326.97,91.61 cw(c-275,102) -275,155 275,155 cw(c275,101.99) 326.79,90.7 ; -312.4,-110.99 ccw(c-245,-102) -245,-170 245,-170 ccw(c244.99,-102) 312.89,-105.7 ; -296.3,-115.33 ccw(c-245,-101.99) -245,-155 245,-155 ccw(c244.99,-102) 296.52,-114.37 ; 296,-115 327,91 ; 312,-113 342,91 ; -500,-245 -585,-245 cw(c-585,-220) -610,-220 -610,220 cw(c-585,220) -585,245 -500,245 ; -500,-245 -400,-245 ; -500,-245 -500,-240 -400,-240 -400,-245 ; -500,245 -400,245 ; -500,245 -500,240 -400,240 -400,245 ; -400,-245 400,-245 ; -400,245 400,245 ; 400,-245 500,-245 ; 400,-245 400,-240 500,-240 500,-245 ; 400,245 500,245 ; 400,245 400,240 500,240 500,245 ; 500,-245 585,-245 ccw(c585,-220) 610,-220 610,220 ccw(c585,220) 585,245 500,245
Mechanical 8:
  circle w16: c-216,56 r10
  circle w16: c-162,-56 r10
  circle w16: c-108,56 r10
  circle w16: c-54,-56 r10
  circle w16: c216,56 r10
  circle w16: c162,-56 r10
  circle w16: c108,56 r10
  circle w16: c54,-56 r10
  circle w16: c0,56 r10